# Altium footprint library Digital_Clock.PcbLib: 4 footprints
Each footprint in its own frame and in the unit in brackets; x right, y up, seen from the top. Pads: shape width x height; smd on the part's side, far side on the other; paste and mask are expansions set on the pad; w line width, h text height; cw(c..) or ccw(c..) is an arc to the next point about the centre after c.
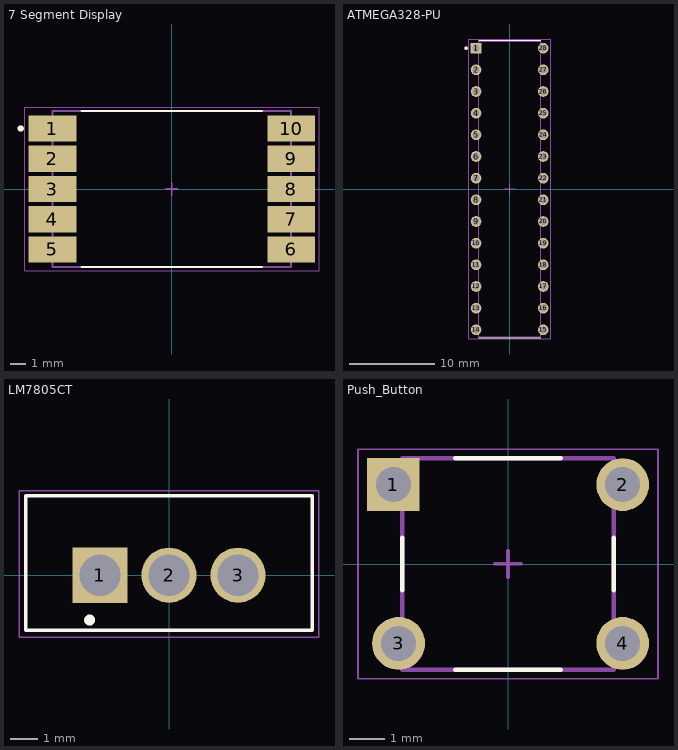
[diagram p0: the footprints below, top view; thin cyan lines are the x and y axes]

## 7 Segment Display [mm]
pads (10):
  rect 3x1.65 smd mask+0.05: 1(-7.5,3.8) 2(-7.5,1.9) 3(-7.5,0) 4(-7.5,-1.9) 5(-7.5,-3.8) 6(7.5,-3.8) 7(7.5,-1.9) 8(7.5,0) 9(7.5,1.9) 10(7.5,3.8)
Top Overlay:
  circle w0.2: c-9.5,3.8 r0.1
  lines w0.127: -5.68,-4.9 5.68,-4.9 ; -5.68,4.9 5.68,4.9
Mechanical 13:
  lines w0.127: -7.5,-4.9 7.5,-4.9 7.5,4.9 -7.5,4.9 -7.5,-4.9
Mechanical 15:
  lines w0.05: -9.25,-5.15 -9.25,5.15 9.25,5.15 9.25,-5.15 -9.25,-5.15
  lines w0.1: -0.381,0 0.381,0 ; 0,-0.381 0,0.381
3D body "step_temp.STEP": height 3.75, standoff 0, extent -7.5,-4.9 7.5,4.9

## ATMEGA328-PU [mm]
pads (28):
  rect 1.25x1.25 / inner round 1.25 / far side rect 1.25x1.25 hole 0.83: 1(-3.937,16.51)
  round 1.25 hole 0.83: 2(-3.937,13.97) 3(-3.937,11.43) 4(-3.937,8.89) 5(-3.937,6.35) 6(-3.937,3.81) 7(-3.937,1.27) 8(-3.937,-1.27) 9(-3.937,-3.81) 10(-3.937,-6.35) 11(-3.937,-8.89) 12(-3.937,-11.43) 13(-3.937,-13.97) 14(-3.937,-16.51) 15(3.937,-16.51) 16(3.937,-13.97) 17(3.937,-11.43) 18(3.937,-8.89) 19(3.937,-6.35) 20(3.937,-3.81) 21(3.937,-1.27) 22(3.937,1.27) 23(3.937,3.81) 24(3.937,6.35) 25(3.937,8.89) 26(3.937,11.43) 27(3.937,13.97) 28(3.937,16.51)
Top Overlay:
  circle w0.2: c-5.1,16.51 r0.1
  lines w0.127: -3.619,-17.455 3.619,-17.455 ; -3.619,17.455 3.619,17.455
Mechanical 13:
  circle w0.2: c-5.1,16.51 r0.1
  lines w0.127: -3.619,-17.335 3.619,-17.335 3.619,17.335 -3.619,17.335 -3.619,-17.335
Mechanical 15:
  lines w0.05: -4.812,-17.585 4.812,-17.585 4.812,17.585 -4.812,17.585 -4.812,-17.585
  lines w0.1: -0.635,0.002 0.635,0.002 ; 0,-0.635 0,0.635
3D body "step_temp.STEP": height 4.57, standoff -3.43, extent -3.95,-17.335 3.95,17.335

## LM7805CT [mil]
pads (3):
  rect 80x80 hole 60: 1(-100,0)
  round 80 hole 60: 2(0,0) 3(100,0)
Top Overlay:
  circle w7.87: c-115,-65 r3.94
  lines w5: -207.48,-80 207.48,-80 207.48,115 -207.48,115 -207.48,-80
Mechanical 15:
  lines w1.97: -217.32,-90 217.32,-90 217.32,122.44 -217.32,122.44 -217.32,-90
  lines w3.94: -14.4,-0.14 15.6,-0.14 ; 0,-15 0,15
3D body "LM7805CT.STEP": height 610, standoff -545, extent -200,-75 200,110

## Push_Button [mm]
pads (4):
  rect 1.498x1.498 / inner round 1.498 / far side rect 1.498x1.498 hole 0.99: 1(-3.25,2.25)
  round 1.498 hole 0.99: 2(3.25,2.25) 3(-3.1,-2.25) 4(3.25,-2.25)
Top Overlay:
  lines w0.127: -3,-0.75 -3,0.75 ; -1.5,-3 1.5,-3 ; -1.5,3 1.5,3 ; 3,-0.75 3,0.75
Mechanical 13:
  lines w0.127: -3,-3 3,-3 3,3 -3,3 -3,-3
Mechanical 15:
  lines w0.05: -4.25,-3.25 -4.25,3.25 4.25,3.25 4.25,-3.25 -4.25,-3.25
  lines w0.1: -0.381,0.012 0.381,0.012 ; 0,-0.381 0,0.381
3D body "step_temp.STEP": height 17.01, standoff -3.51, extent -3.898,-2.995 3.9,2.995